# Altium schematic symbol library RES-0603.SchLib: 11 symbols
Pins are listed as number, name and electrical type; pins without a type are passive.

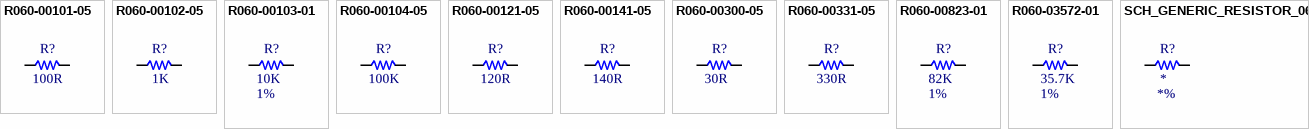
[diagram p0: symbols R060-00101-05 to SCH_GENERIC_RESISTOR_0603]

## R060-00101-05
designator R?  value 100R  (hidden comment: R060-00101-05)
RES 0603 100ohm 5% 63mW; Tolerance: 5%; Power: 63mW; Package: 0603
footprint PCB_GENERIC_SMD_0603
pins: 1, 2

## R060-00102-05
designator R?  value 1K  (hidden comment: R060-00102-05)
RES 0603 1K 5% 63mW; Tolerance: 5%; Power: 63mW; Package: 0603
footprint PCB_GENERIC_SMD_0603
pins: 1, 2

## R060-00103-01
designator R?  value 10K  Tolerance: 1%  (hidden comment: R060-00103-01)
RES 0603 10K 1% 100mW; Power: 100mW; Package: 0603
footprint PCB_GENERIC_SMD_0603
pins: 1, 2

## R060-00104-05
designator R?  value 100K  (hidden comment: R060-00104-05)
RES 0603 100K 5% 63mW; Tolerance: 5%; Power: 63mW; Package: 0603
footprint PCB_GENERIC_SMD_0603
pins: 1, 2

## R060-00121-05
designator R?  value 120R  (hidden comment: R060-00121-05)
RES 0603 120ohm 5% 63mW; Tolerance: 5%; Power: 63mW; Package: 0603
footprint PCB_GENERIC_SMD_0603
pins: 1, 2

## R060-00141-05
designator R?  value 140R  (hidden comment: R060-00141-05)
RES 0603 140ohm 5% 63mW; Tolerance: 5%; Power: 63mW; Package: 0603
footprint PCB_GENERIC_SMD_0603
pins: 1, 2

## R060-00300-05
designator R?  value 30R  (hidden comment: R060-00300-05)
RES 0603 30ohm 5% 100mW; Tolerance: 5%; Power: 100mW; Package: 0603
footprint PCB_GENERIC_SMD_0603
pins: 1, 2

## R060-00331-05
designator R?  value 330R  (hidden comment: R060-00331-05)
RES 0603 330ohm 5% 63mW; Tolerance: 5%; Power: 63mW; Package: 0603
footprint PCB_GENERIC_SMD_0603
pins: 1, 2

## R060-00823-01
designator R?  value 82K  Tolerance: 1%  (hidden comment: R060-00823-01)
RES 0603 82K 1% 100mW; Power: 100mW; Package: 0603
footprint PCB_GENERIC_SMD_0603
pins: 1, 2

## R060-03572-01
designator R?  value 35.7K  Tolerance: 1%  (hidden comment: R060-03572-01)
RES 0603 35.7K 1% 100mW; Power: 100mW; Package: 0603
footprint PCB_GENERIC_SMD_0603
pins: 1, 2

## SCH_GENERIC_RESISTOR_0603
designator R?  Tolerance: *%  (hidden comment: SCH_GENERIC_RESISTOR_0603)
Generic SMD resistor 0603; Resistance: *
footprint PCB_GENERIC_SMD_0603
pins: 1, 2